# EAGLE library part 74F139 (library a3640_edu_v0.1)
74F139 PARA A3640
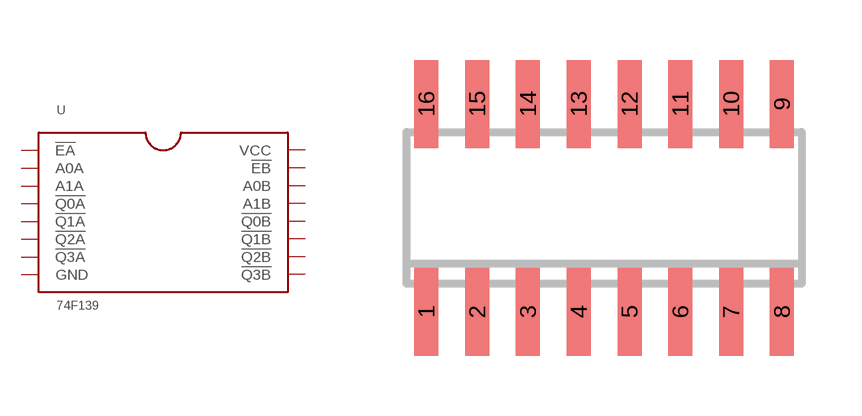
[diagram p4: symbol with the pads of 74F139; footprint 74F139]

Designator prefix -

## 74F139  [74F139]
1  !EA
2  A0A
3  A1A
4  !Q0A
5  !Q1A  pwr
6  !Q2A  pwr
7  !Q3A
8  GND  pwr
9  !Q3B
10  !Q2B
11  !Q1B
12  !Q0B
13  A1B
14  A0B
15  !EB
16  VCC  pwr

## Footprint 74F139 (pad centres in mm)
smd 0.6 x 2.2: 1 -4.445,-2.6; 2 -3.175,-2.6; 3 -1.905,-2.6; 4 -0.635,-2.6; 5 0.635,-2.6; 6 1.905,-2.6; 7 3.175,-2.6; 8 4.445,-2.6; 9 4.445,2.6; 10 3.175,2.6; 11 1.905,2.6; 12 0.635,2.6; 13 -0.635,2.6; 14 -1.905,2.6; 15 -3.175,2.6; 16 -4.445,2.6